# Altium footprint library ADR280ARTZ.PcbLib: 1 footprints
Each footprint in its own frame and in the unit in brackets; x right, y up, seen from the top. Pads: shape width x height; smd on the part's side, far side on the other; paste and mask are expansions set on the pad; w line width, h text height; cw(c..) or ccw(c..) is an arc to the next point about the centre after c.
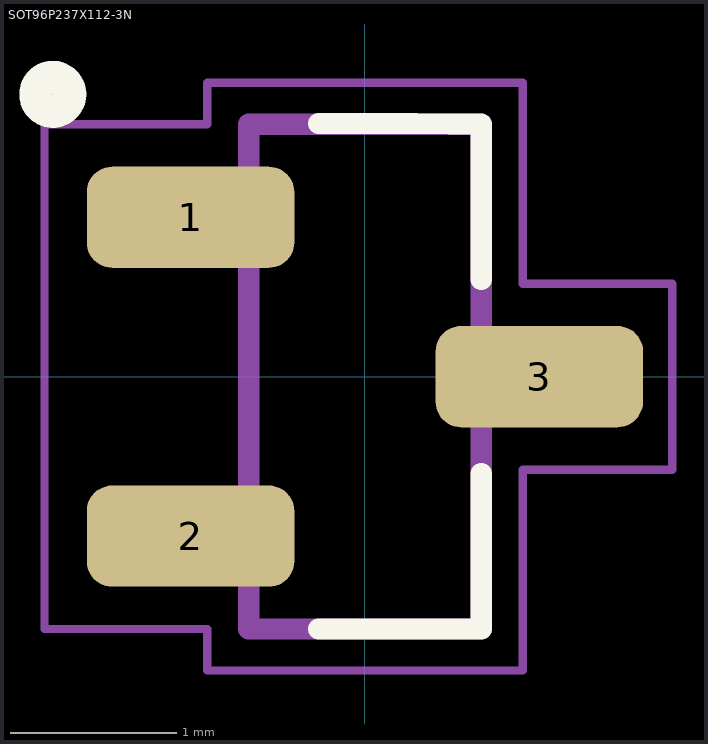
[diagram p0: the footprint, top view; thin cyan lines are the x and y axes]

## SOT96P237X112-3N [mm]
pads (3):
  rrect50% 1.25x0.61 smd: 1(-1.05,0.96) 2(-1.05,-0.96) 3(1.05,0)
Top Overlay:
  circle w0.2: c-1.88,1.7 r0.102
  lines w0.127: -0.279,-1.52 0.7,-1.52 0.7,-0.584 ; -0.279,1.524 0.305,1.524 0.7,1.52 0.7,0.584
Mechanical 13:
  lines w0.127: 0.305,1.524 0.7,1.52 ; 0.7,1.52 -0.7,1.52 -0.7,-1.52 0.7,-1.52 0.7,1.52
Mechanical 15:
  lines w0.05: -1.93,-1.52 -1.93,1.52 -0.95,1.52 -0.95,1.77 0.95,1.77 0.95,0.56 1.85,0.56 1.85,-0.56 0.95,-0.56 0.95,-1.77 -0.95,-1.77 -0.95,-1.52 -1.93,-1.52